# Altium footprint library C_EL.PcbLib: 18 footprints (part 2 of 2)
Each footprint in its own frame and in the unit in brackets; x right, y up, seen from the top. Pads: shape width x height; smd on the part's side, far side on the other; paste and mask are expansions set on the pad; w line width, h text height; cw(c..) or ccw(c..) is an arc to the next point about the centre after c.
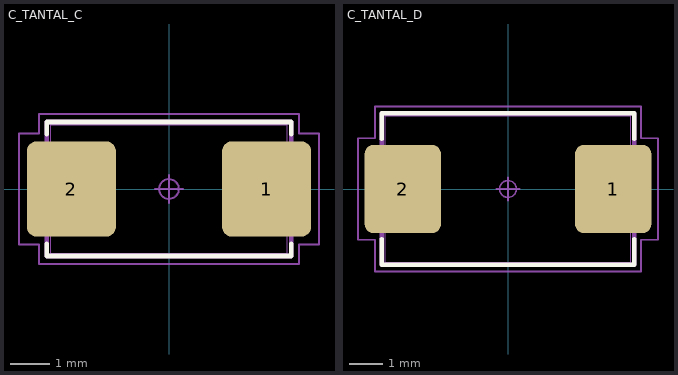
[diagram p1: the footprints below, top view; thin cyan lines are the x and y axes]

## C_TANTAL_C [mm] "Capacitor, Polarized, Molded Body; 6.00 mm L X 3.25 mm W X 2.80 mm H body"
height 2.8
pads (2):
  rrect22% 2.26x2.42 smd: 1(2.475,0) 2(-2.475,0)
Top Overlay:
  lines w0.12: -3.1,-1.39 -3.1,-1.7 3.1,-1.7 3.1,-1.39 ; -3.1,1.39 -3.1,1.7 3.1,1.7 3.1,1.39
Mechanical 11:
  lines w0.12: -3.1,-1.7 3.1,-1.7 3.1,1.7 -3.1,1.7 -3.1,-1.7
Mechanical 12:
  lines w0.025: -3,-1.625 3,-1.625 3,1.625 -3,1.625 -3,-1.625 ; -3,-1.1 -3,1.1 -1.65,1.1 -1.65,-1.1 -3,-1.1 ; 1.65,-1.1 3,-1.1 3,1.1 1.65,1.1 1.65,-1.1
Mechanical 15:
  circle w0.05: c0,0 r0.25
  lines w0.05: -0.35,0 0.35,0 ; 0,-0.35 0,0.35 ; -3.805,-1.41 -3.3,-1.41 -3.3,-1.9 3.3,-1.9 3.3,-1.41 3.805,-1.41 3.805,1.41 3.3,1.41 3.3,1.9 -3.3,1.9 -3.3,1.41 -3.805,1.41 -3.805,-1.41
Mechanical 16:
  text ".Designator" at 0,0 h1.2
3D body "C_TANTAL_C.STEP": height 2.8, standoff 0, extent -3,-1.625 3,1.625

## C_TANTAL_D [mm] "Capacitor, Polarized, Molded Body; 7.30 mm L X 4.35 mm W X 3.10 mm H body"
height 3.1
pads (2):
  rrect22% 2.26x2.62 smd: 1(3.125,0) 2(-3.125,0)
Top Overlay:
  lines w0.12: -3.75,-1.49 -3.75,-2.25 3.75,-2.25 3.75,-1.49 ; -3.75,1.49 -3.75,2.25 3.75,2.25 3.75,1.49
Mechanical 11:
  lines w0.12: -3.75,-2.25 3.75,-2.25 3.75,2.25 -3.75,2.25 -3.75,-2.25
Mechanical 12:
  lines w0.025: -3.65,-2.175 3.65,-2.175 3.65,2.175 -3.65,2.175 -3.65,-2.175 ; -3.65,-1.2 -3.65,1.2 -2.3,1.2 -2.3,-1.2 -3.65,-1.2 ; 2.3,-1.2 3.65,-1.2 3.65,1.2 2.3,1.2 2.3,-1.2
Mechanical 15:
  circle w0.05: c0,0 r0.25
  lines w0.05: -0.35,0 0.35,0 ; 0,-0.35 0,0.35 ; -4.455,-1.51 -3.95,-1.51 -3.95,-2.45 3.95,-2.45 3.95,-1.51 4.455,-1.51 4.455,1.51 3.95,1.51 3.95,2.45 -3.95,2.45 -3.95,1.51 -4.455,1.51 -4.455,-1.51
Mechanical 16:
  text ".Designator" at 0,0 h1.2
3D body "C_TANTAL_D.STEP": height 3.1, standoff 0, extent -3.65,-2.175 3.65,2.175